# Altium footprint library PcbLib1.PcbLib: 16 footprints
Each footprint in its own frame and in the unit in brackets; x right, y up, seen from the top. Pads: shape width x height; smd on the part's side, far side on the other; paste and mask are expansions set on the pad; w line width, h text height; cw(c..) or ccw(c..) is an arc to the next point about the centre after c.
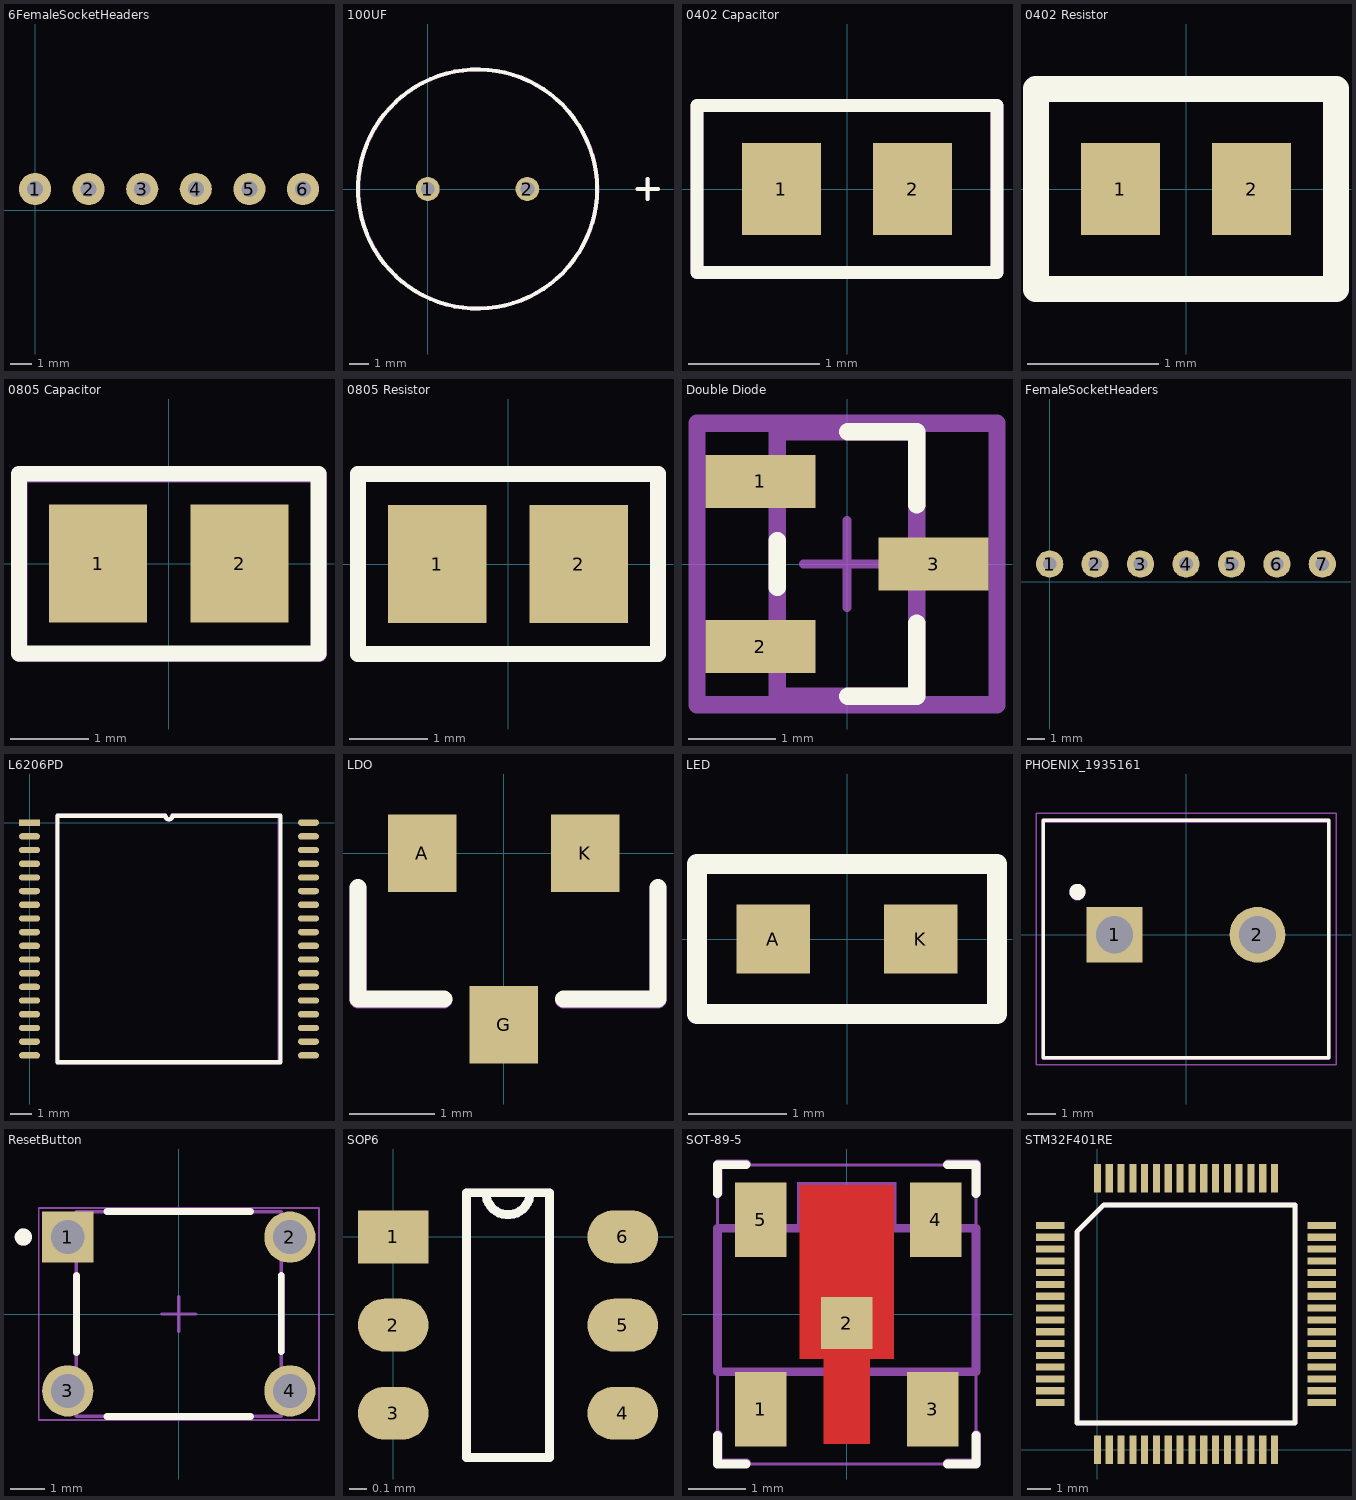
[diagram p0: the footprints below, top view; thin cyan lines are the x and y axes]

## 6FemaleSocketHeaders [mil]
pads (6):
  round 60 hole 30: 1(0,39.37) 2(100,39.37) 3(200,39.37) 4(300,39.37) 5(400,39.37) 6(500,39.37)
Mechanical:
  text "'.Designator'" at 2.76,-40.82 h27.56
3D body "Assem1.STEP": height 273.91, standoff -125.48, extent -59.05,33.46 574.8,1886.22

## 100UF [mm]
pads (2):
  round 1.2 hole 0.7: 1(0,0) 2(5,0)
Top Overlay:
  circle w0.2: c2.5,0 r6
  lines w0.2: 10.532,0 11.548,0 ; 11.04,-0.508 11.04,0.508
Mechanical:
  circle w0.2: c2.51,0 r6
  lines w0.2: 10.542,0 11.558,0 ; 11.05,-0.508 11.05,0.508
  text "'.Designator'" at 5.67,-6.227 h0.7
3D body "CircuitWorks-ELECTROLITIC CAPACITOR RADIAL 10X12.step": height 12.01, standoff -2.49, extent -2.5,-5 7.5,5

## 0402 Capacitor [mm]
pads (2):
  rect 0.6x0.7 smd: 1(-0.5,0) 2(0.5,0)
Top Overlay:
  lines w0.1: -1.143,-0.635 -1.143,-0.182 -1.143,0.068 -1.143,0.635 1.143,0.635 1.143,-0.635 -1.143,-0.635
Mechanical:
  lines w0.1: -1.143,-0.635 -1.143,-0.182 -1.143,0.068 -1.143,0.635 1.143,0.635 1.143,-0.635 -1.143,-0.635
  text "'.Designator'" at 1.45,-0.327 h0.7
3D body "User Library-d0402h025.step": height 0.26, standoff 0.01, extent -0.5,-0.26 0.5,0.24

## 0402 Resistor [mm]
pads (2):
  rect 0.6x0.7 smd: 1(-0.5,0) 2(0.5,0)
Top Overlay:
  lines w0.2: -1.143,-0.762 -1.143,0.762 1.143,0.762 1.143,-0.762 -1.143,-0.762
Mechanical:
  lines w0.2: -1.143,-0.762 -1.143,0.762 1.143,0.762 1.143,-0.762 -1.143,-0.762
  text "'.Designator'" at 1.41,-0.307 h0.7
3D body "User Library-CR1005-0402.step": height 0.36, standoff 0.01, extent -0.5,-0.25 0.5,0.25

## 0805 Capacitor [mm]
pads (2):
  rect 1.25x1.5 smd: 1(-0.9,0) 2(0.9,0)
Top Overlay:
  lines w0.2: -1.905,-1.143 -1.905,1.143 1.905,1.143 1.905,-1.143 -1.905,-1.143
Mechanical:
  lines w0.2: -1.9,-1.15 -1.9,1.136 1.91,1.136 1.91,-1.15 -1.9,-1.15
  text "'.Designator'" at 2.14,-0.307 h0.7
3D body "c0805c101k5gactu.stp": height 0.89, standoff 0.01, extent -1.1,-0.73 1.1,0.72

## 0805 Resistor [mm]
pads (2):
  rect 1.25x1.5 smd: 1(-0.9,0) 2(0.9,0)
Top Overlay:
  lines w0.2: -1.905,-1.143 1.905,-1.143 1.905,1.143 -1.905,1.143 -1.905,-1.143
Mechanical:
  lines w0.2: -1.905,-1.143 1.905,-1.143 1.905,1.143 -1.905,1.143 -1.905,-1.143
  text "'.Designator'" at 2.14,-0.377 h0.7
3D body "User Library-CR2012-0805.step": height 0.61, standoff 0.01, extent -1.02,-0.625 0.98,0.625

## Double Diode [mm]
pads (3):
  rect 1.26x0.61 smd paste+0 mask+0: 1(-0.995,0.95) 2(-0.995,-0.95) 3(0.995,0)
Top Overlay:
  lines w0.2: -0.8,-0.27 -0.8,0.27 ; 0.01,-1.52 0.8,-1.52 0.8,-0.68 ; 0.01,1.52 0.8,1.52 0.8,0.68
Mechanical 5:
  lines w0.2: -1.725,-1.62 1.725,-1.62 1.725,1.62 -1.725,1.62 -1.725,-1.62
Mechanical 13:
  lines w0.2: -0.8,-1.52 0.8,-1.52 0.8,1.52 -0.8,1.52 -0.8,-1.52
Mechanical 15:
  lines w0.2: -1.725,-1.62 1.725,-1.62 1.725,1.62 -1.725,1.62 -1.725,-1.62
Mechanical 16:
  lines w0.1: -0.5,0 0.5,0 ; 0,-0.5 0,0.5
Mechanical:
  lines w0.2: -0.8,-0.27 -0.8,0.27 ; 0.01,-1.52 0.8,-1.52 0.8,-0.68 ; 0.01,1.52 0.8,1.52 0.8,0.68
  text "'.Designator'" at 1.987,0.46 h0.7
3D body "Diode_STMicroelectronics_BAR43SFILM_eec.STEP": height 0.25, standoff 0, extent -1.725,-1.62 1.725,1.62

## FemaleSocketHeaders [mil]
pads (7):
  round 60 hole 30: 1(0,39.37) 2(100,39.37) 3(200,39.37) 4(300,39.37) 5(400,39.37) 6(500,39.37) 7(600,39.37)
Mechanical:
  text "'.Designator'" at -19.29,-45.93 h27.56
3D body "User Library-zl262-7s_p2-54_l18-28_w2-54_h8-5.step": height 335.15, standoff -117.61, extent -61.81,-7.48 657.88,92.52

## L6206PD [mm]
pads (36):
  rect 1x0.3 smd: 1(0,0)
  oval 1x0.3 smd: 2(0,-0.65) 3(0,-1.3) 4(0,-1.95) 5(0,-2.6) 6(0,-3.25) 7(0,-3.9) 8(0,-4.55) 9(0,-5.2) 10(0,-5.85) 11(0,-6.5) 12(0,-7.15) 13(0,-7.8) 14(0,-8.45) 15(0,-9.1) 16(0,-9.75) 17(0,-10.4) 18(0,-11.05) 19(13.25,-11.05) 20(13.25,-10.4) 21(13.25,-9.75) 22(13.25,-9.1) 23(13.25,-8.45) 24(13.25,-7.8) 25(13.25,-7.15) 26(13.25,-6.5) 27(13.25,-5.85) 28(13.25,-5.2) 29(13.25,-4.55) 30(13.25,-3.9) 31(13.25,-3.25) 32(13.25,-2.6) 33(13.25,-1.95) 34(13.25,-1.3) 35(13.25,-0.65) 36(13.25,0)
Top Overlay:
  lines w0.2: 1.335,-11.375 11.915,-11.375 11.915,0.325 6.787,0.325 cw(c6.625,0.325) 6.462,0.325 1.335,0.325 1.335,-11.375
Mechanical:
  lines w0.2: 1.305,-11.375 11.885,-11.375 11.885,0.325 6.757,0.325 cw(c6.595,0.325) 6.432,0.325 1.305,0.325 1.305,-11.375
  text "'.Designator'" at 6.23,-5.227 h0.7
3D body "User Library-PowerSO36.STEP": height 3.6, standoff 0, extent -0.36,-13.51 13.697,2.49

## LDO [mm]
pads (3):
  rect 0.8x0.9 smd: A(-0.95,0) G(0,-2) K(0.95,0)
Top Overlay:
  lines w0.2: -1.7,-0.4 -1.7,-1.7 -0.7,-1.7 ; 0.7,-1.7 1.8,-1.7 1.8,-0.4
Mechanical:
  lines w0.2: -1.7,-0.41 -1.7,-1.71 -0.7,-1.71 ; 0.7,-1.71 1.8,-1.71 1.8,-0.41
  text "'.Designator'" at 0.65,-2.767 h0.7
3D body "User Library-SOT23-3.step": height 1.3, standoff 0, extent -1.44,-2.41 1.46,0.39

## LED [mm]
pads (2):
  rect 0.75x0.7 smd: A(-0.75,0) K(0.75,0)
Top Overlay:
  lines w0.2: -1.524,-0.762 1.524,-0.762 1.524,0.762 -1.524,0.762 -1.524,0.254 -1.524,-0.762
Mechanical:
  lines w0.2: -1.524,-0.762 1.524,-0.762 1.524,0.762 -1.524,0.762 -1.524,0.254 -1.524,-0.762
  text "'.Designator'" at -1.52,-1.787 h0.7
3D body "ALSRobot-LED0603(Y).step": height 0.6, standoff 0, extent -0.81,-0.4 0.81,0.4

## PHOENIX_1935161 [mm]
pads (2):
  rect 1.95x1.95 hole 1.3: 1(-2.5,0)
  round 1.95 hole 1.3: 2(2.5,0)
Top Overlay:
  circle w0.28: c-3.8,1.5 r0.14
  lines w0.127: -5,-4.3 5,-4.3 5,4 -5,4 -5,-4.3
Mechanical 13:
  circle w0.28: c-3.8,1.5 r0.14
  lines w0.127: -5,-4.3 -5,4 5,4 5,-4.3 -5,-4.3
Mechanical 15:
  lines w0.05: -5.25,-4.55 5.25,-4.55 5.25,4.25 -5.25,4.25 -5.25,-4.55
Mechanical:
  circle w0.28: c-3.8,1.48 r0.14
  lines w0.127: -5,-4.32 5,-4.32 5,3.98 -5,3.98 -5,-4.32
  text "'.Designator'" at -5.03,6.953 h0.7
3D body "50493.stp": height 13.81, standoff -3.49, extent -5.761,-4.605 4.98,6.545

## ResetButton [mm] "Switch, 4-Leads, Body 5.99x5.99mm"
height 5
pads (4):
  rect 1.5x1.5 hole 0.99: 1(-3.25,2.25)
  round 1.5 hole 0.99: 2(3.25,2.25) 3(-3.25,-2.25) 4(3.25,-2.25)
Top Overlay:
  circle w0.25: c-4.55,2.25 r0.125
  lines w0.2: -2.995,-1.129 -2.995,1.129 ; -2.104,-2.995 2.1,-2.995 ; -2.104,2.995 2.1,2.995 ; 2.995,-1.1 2.995,1.129
Mechanical 13:
  lines w0.1: -2.995,-2.995 -2.995,2.995 2.995,2.995 2.995,-2.995 -2.995,-2.995
Mechanical 15:
  lines w0.05: -4.1,-3.1 -4.1,3.1 4.1,3.1 4.1,-3.1 -4.1,-3.1
  lines w0.1: -0.5,0 0.5,0 ; 0,-0.5 0,0.5
Mechanical:
  circle w0.25: c-4.545,2.25 r0.125
  lines w0.2: -2.99,-1.129 -2.99,1.129 ; -2.099,-2.995 2.105,-2.995 ; -2.099,2.995 2.105,2.995 ; 3,-1.1 3,1.129
  text "'.Designator'" at -4.02,-4.047 h0.7
3D body: height 5, standoff 0, extent -2.995,-2.995 2.995,2.995

## SOP6 [mm]
pads (6):
  rect 0.4x0.3 smd: 1(0,0)
  oval 0.4x0.3 smd: 2(0,-0.5) 3(0,-1) 4(1.3,-1) 5(1.3,-0.5) 6(1.3,0)
Top Overlay:
  lines w0.05: 0.415,-1.25 0.415,0.25 0.775,0.25 cw(c0.65,0.25) 0.525,0.25 0.885,0.25 0.885,-1.25 0.415,-1.25
Mechanical:
  lines w0.05: 0.415,-1.25 0.885,-1.25 0.885,0.25 0.525,0.25 ccw(c0.65,0.25) 0.775,0.25 0.415,0.25 0.415,-1.25
  text "'.Designator'" at -0.43,0.503 h0.7
3D body "TMP102AIDRLT.STEP": height 0.6, standoff 0, extent -0.14,-1.31 1.46,0.29

## SOT-89-5 [mm]
pads (5):
  rect 0.9x1.3 smd: 1(-1.5,-1.65) 3(1.5,-1.65) 4(1.548,1.652) 5(-1.5,1.652)
  rect 0.9x0.9 smd: 2(0,-0.15)
Top Layer:
  region: -0.817,2.25 0.816,2.25 0.816,-0.775 0.4,-0.775 0.4,-2.25 -0.401,-2.25 -0.401,-0.775 -0.817,-0.775
Top Overlay:
  lines w0.152: -2.25,-2.105 -2.25,-2.605 -1.75,-2.605 ; -2.25,2.105 -2.25,2.605 -1.75,2.605 ; 1.75,-2.605 2.25,-2.605 2.25,-2.105 ; 1.75,2.605 2.25,2.605 2.25,2.105
Top Paste:
  region: -0.817,2.25 0.816,2.25 0.816,-0.775 0.4,-0.775 0.4,-2.25 -0.401,-2.25 -0.401,-0.775 -0.817,-0.775
Top Solder:
  region: -2.001,-0.949 -0.999,-0.949 -0.999,-2.351 -2.001,-2.351
  region: 0.999,-0.949 2.001,-0.949 2.001,-2.351 0.999,-2.351
  region: -0.865,2.3 0.865,2.3 0.866,-0.825 0.45,-0.825 0.45,-2.3 -0.451,-2.3 -0.451,-0.825 -0.867,-0.825
Mechanical 4:
  region: -0.865,2.3 0.866,2.3 0.866,1.5 -0.865,1.5
  region: -0.25,-1 0.25,-1 0.25,-2.1 -0.25,-2.1
  region: 1.25,-1 1.75,-1 1.75,-2.1 1.25,-2.1
  region: -1.75,-1 -1.25,-1 -1.25,-2.1 -1.75,-2.1
  region: -0.865,2.3 0.866,2.3 0.866,1.5 -0.865,1.5
  region: -0.25,-1 0.25,-1 0.25,-2.1 -0.25,-2.1
  region: 1.25,-1 1.75,-1 1.75,-2.1 1.25,-2.1
  region: -1.75,-1 -1.25,-1 -1.25,-2.1 -1.75,-2.1
  lines w0.152: -2.25,-1 -1.75,-1 ; -2.25,-1 -2.25,1.5 ; -2.25,-1 -1.75,-1 ; -2.25,-1 -2.25,1.5 ; -2.25,1.5 -0.865,1.5 ; -2.25,1.5 -0.865,1.5 ; -1.75,-1 -1.25,-1 ; -1.75,-1 -1.25,-1 ; -1.75,-1 -1.25,-1 ; -1.75,-1 -1.25,-1 ; -1.25,-1 -0.25,-1 ; -1.25,-1 -0.25,-1 ; -0.865,1.5 0.865,1.5 ; -0.865,1.5 0.865,1.5 ; -0.865,1.5 0.865,1.5 ; -0.865,1.5 0.865,1.5 ; -0.25,-1 0.25,-1 ; -0.25,-1 0.25,-1 ; -0.25,-1 0.25,-1 ; -0.25,-1 0.25,-1 ; 0.25,-1 1.25,-1 ; 0.25,-1 1.25,-1 ; 0.865,1.5 2.25,1.5 ; 0.865,1.5 2.25,1.5 ; 1.25,-1 1.75,-1 ; 1.25,-1 1.75,-1 ; 1.25,-1 1.75,-1 ; 1.25,-1 1.75,-1 ; 1.75,-1 2.25,-1 ; 1.75,-1 2.25,-1 ; 2.25,-1 2.25,1.5 ; 2.25,-1 2.25,1.5
Mechanical 16:
  lines w0.05: -2.25,-2.605 2.25,-2.605 2.25,2.605 -2.25,2.605 -2.25,-2.605
Mechanical:
  lines w0.152: -2.24,-2.09 -2.24,-2.59 -1.74,-2.59 ; -2.24,2.12 -2.24,2.62 -1.74,2.62 ; 1.76,-2.59 2.26,-2.59 2.26,-2.09 ; 1.76,2.62 2.26,2.62 2.26,2.12
  text "'.Designator'" at -2.18,3.153 h0.7
3D body "User Library-SOT89-5.step": height 1.55, standoff 0.01, extent -2.23,-2.2 2.27,2.3

## STM32F401RE [mm]
pads (64):
  rect 0.3x1.2 smd: 1(0,0) 2(0.5,0) 3(1,0) 4(1.5,0) 5(2,0) 6(2.5,0) 7(3,0) 8(3.5,0) 9(4,0) 10(4.5,0) 11(5,0) 12(5.5,0) 13(6,0) 14(6.5,0) 15(7,0) 16(7.5,0) 33(7.5,11.5) 34(7,11.5) 35(6.5,11.5) 36(6,11.5) 37(5.5,11.5) 38(5,11.5) 39(4.5,11.5) 40(4,11.5) 41(3.5,11.5) 42(3,11.5) 43(2.5,11.5) 44(2,11.5) 45(1.5,11.5) 46(1,11.5) 47(0.5,11.5) 48(0,11.5)
  rect 1.2x0.3 smd: 17(9.5,2) 18(9.5,2.5) 19(9.5,3) 20(9.5,3.5) 21(9.5,4) 22(9.5,4.5) 23(9.5,5) 24(9.5,5.5) 25(9.5,6) 26(9.5,6.5) 27(9.5,7) 28(9.5,7.5) 29(9.5,8) 30(9.5,8.5) 31(9.5,9) 32(9.5,9.5) 49(-2,9.5) 50(-2,9) 51(-2,8.5) 52(-2,8) 53(-2,7.5) 54(-2,7) 55(-2,6.5) 56(-2,6) 57(-2,5.5) 58(-2,5) 59(-2,4.5) 60(-2,4) 61(-2,3.5) 62(-2,3) 63(-2,2.5) 64(-2,2)
Top Overlay:
  lines w0.2: -0.865,1.135 8.365,1.135 8.365,10.365 0.27,10.365 -0.865,9.23 -0.865,1.135
Mechanical:
  lines w0.2: -0.855,1.135 8.375,1.135 8.375,10.365 0.28,10.365 -0.855,9.23 -0.855,1.135
  text "'.Designator'" at 2.89,5.393 h0.7
3D body "User Library-LQFP64-1.step": height 1.41, standoff -0.15, extent -2.26,-0.27 9.74,11.73